# EAGLE library part DRV8220DSGR (library DRV8220DSGR)
DRV8220DSGR Source: Datasheet <https://www.ti.com/lit/gpn/drv8220>
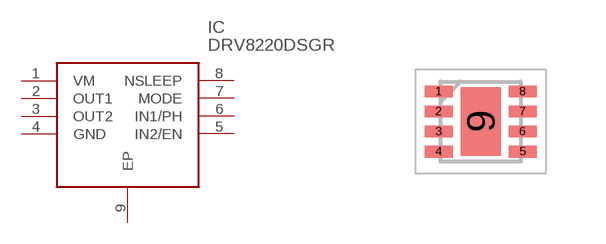
[diagram p0: symbol with the pads of SON50P200X200X80-9N; footprint SON50P200X200X80-9N]

Designator prefix IC

## DRV8220DSGR (Description: DRV8220DSGR; Height: 0.8mm; Manufacturer_Name: Texas Instruments; Manufacturer_Part_Number: DRV8220DSGR; Mouser_Part_Number: 595-DRV8220DSGR; Mouser_Price-Stock: https://www.mouser.co.uk/ProductDetail/Texas-Instruments/DRV8220DSGR?qs=A6eO%252BMLsxmR1BpX9iMystg%3D%3D)  [SON50P200X200X80-9N]
1  VM
2  OUT1
3  OUT2
4  GND
5  IN2/EN
6  IN1/PH
7  MODE
8  NSLEEP
9  EP

## Footprint SON50P200X200X80-9N (pad centres in mm)
DSG
smd 0.7 x 0.3: 1 -1.05,0.75; 2 -1.05,0.25; 3 -1.05,-0.25; 4 -1.05,-0.75; 5 1.05,-0.75; 6 1.05,-0.25; 7 1.05,0.25; 8 1.05,0.75
smd 1 x 1.7: 9 0,0